# Altium footprint library Connectors.PcbLib: 76 footprints (part 1 of 5)
Each footprint in its own frame and in the unit in brackets; x right, y up, seen from the top. Pads: shape width x height; smd on the part's side, far side on the other; paste and mask are expansions set on the pad; w line width, h text height; cw(c..) or ccw(c..) is an arc to the next point about the centre after c.
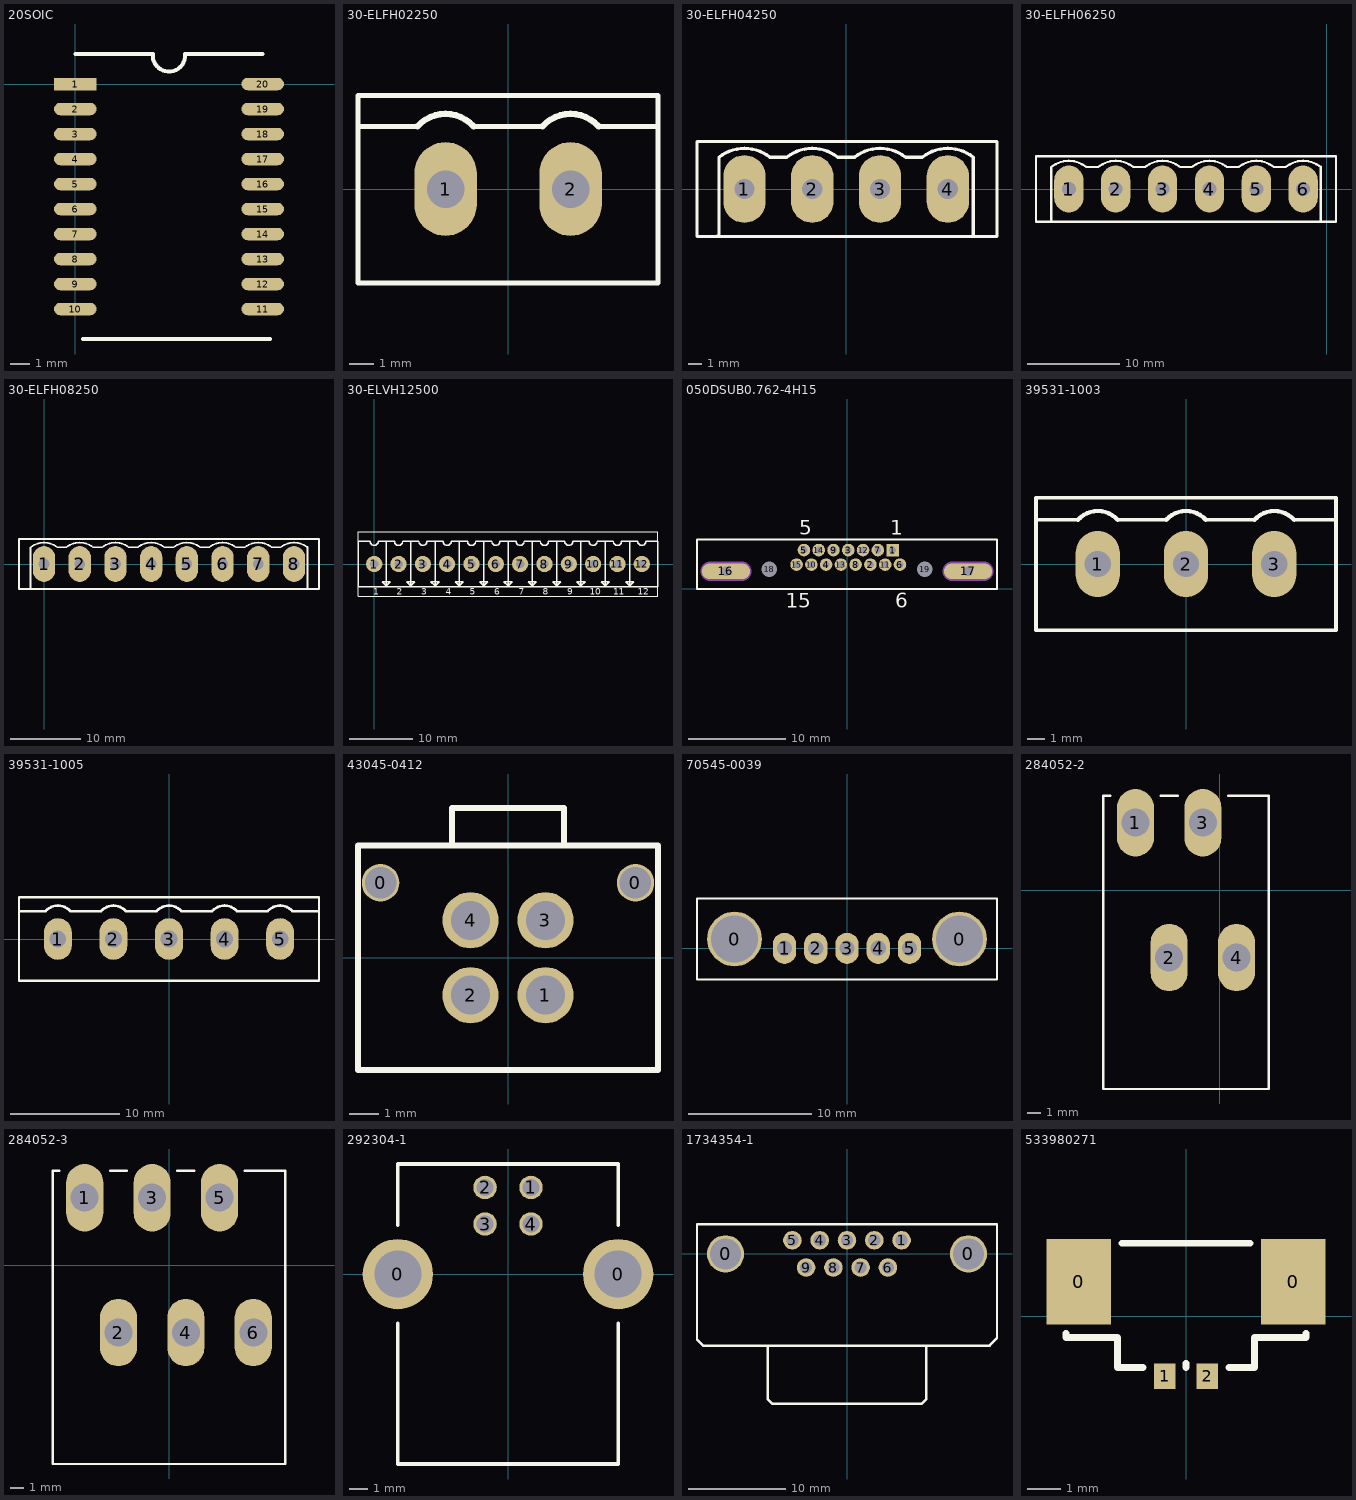
[diagram p0: the footprints below, top view; thin cyan lines are the x and y axes]

## 20SOIC [mil] "20SOIC"
height 100
pads (20):
  rect 85x25 smd: 1(0,0)
  oval 85x25 smd: 2(0,-50) 3(0,-100) 4(0,-150) 5(0,-200) 6(0,-250) 7(0,-300) 8(0,-350) 9(0,-400) 10(0,-450) 11(375,-450) 12(375,-400) 13(375,-350) 14(375,-300) 15(375,-250) 16(375,-200) 17(375,-150) 18(375,-100) 19(375,-50) 20(375,0)
Top Overlay:
  lines w8: 0,60 155,60 ccw(c187.5,57.5) 185,25 ccw(c187.5,57.5) 220,60 375,60 ; 15,-510 390,-510

## 30-ELFH02250 [mil] "ELFH02250"
height 475
pads (2):
  oval 100x150 hole 60: 1(-100,0) 2(100,0)
Top Overlay:
  lines w8: -239.72,100.28 -144.75,100.28 ; -55,100 54.97,100 ; 145,100 240,100 ; -240,-150 -240,150 240,150 240,-150 -240,-150
  lines w10: -144.75,100.28 cw(c-100,60) -55,100 ; 55.25,100.28 cw(c100,60) 145,100

## 30-ELFH04250 [mil]
height 1200
pads (4):
  oval 125x200 / inner round 60 / far side oval 125x200 hole 60: 1(-300,0) 2(-100,0) 3(100,0) 4(300,0)
Top Overlay:
  lines w10: -380,-140 -374.96,-134.96 -374.96,93.7 cw(c-300,0) -225.04,93.7 -174.96,93.7 cw(c-100,0) -25.04,93.7 25.04,93.7 cw(c100,0) 174.96,93.7 225.04,93.7 cw(c300,0) 374.96,93.7 374.96,-134.96 ; -440,-140 445,-140 445,140 -440,140 -440,-140

## 30-ELFH06250 [mil]
pads (6):
  oval 125x200 / inner round 60 / far side oval 125x200 hole 60: 1(-1100,0) 2(-900,0) 3(-700,0) 4(-500,0) 5(-300,0) 6(-100,0)
Top Overlay:
  lines w10: -1180,-140 -1174.96,-134.96 -1174.96,93.7 cw(c-1100,0) -1025.04,93.7 -974.96,93.7 cw(c-900,0) -825.04,93.7 -774.96,93.7 cw(c-700,0) -625.04,93.7 -574.96,93.7 cw(c-500,0) -425.04,93.7 -374.96,93.7 cw(c-300,0) -225.04,93.7 -174.96,93.7 cw(c-100,0) -25.04,93.7 ; -25,-133.67 -25,95 ; -1240,-140 -1240,140 40,140 40,-140 -1240,-140

## 30-ELFH08250 [mil]
height 475
pads (8):
  oval 125x200 / inner round 60 / far side oval 125x200 hole 60: 1(0,0) 2(200,0) 3(400,0) 4(600,0) 5(800,0) 6(1000,0) 7(1200,0) 8(1400,0)
Top Overlay:
  lines w10: -80,-140 -74.96,-134.96 -74.96,93.7 cw(c0,0) 74.96,93.7 125.04,93.7 cw(c200,0) 274.96,93.7 325.04,93.7 cw(c400,0) 474.96,93.7 525.04,93.7 cw(c600,0) 674.96,93.7 725.04,93.7 cw(c800,0) 874.96,93.7 925.04,93.7 cw(c1000,0) 1074.96,93.7 1125.04,93.7 cw(c1200,0) 1274.96,93.7 1325.04,93.7 cw(c1400,0) 1474.96,93.7 ; 1475,-133.67 1475,95 ; -140,-140 1540,-140 1540,140 -140,140 -140,-140

## 30-ELVH12500 [mil] "Mini connection header"
height 360
pads (12):
  round 100 hole 52: 1(0,0) 2(150,0) 3(300,0) 4(450,0) 5(600,0) 6(750,0) 7(900,0) 8(1050,0) 9(1200,0) 10(1350,0) 11(1500,0) 12(1650,0)
Top Overlay:
  lines w7: -100,-140 -100,-200 1750,-200 1750,-140 ; -100,140 -100,200 1750,200 1750,140
  lines w8: 75,140 75,-140 75,-135 ; 225,140 225,-140 225,-135 ; 375,140 375,-140 375,-135 ; 525,140 525,-140 525,-135 ; 675,140 675,-140 675,-135 ; 825,140 825,-140 825,-135 ; 975,140 975,-140 975,-135 ; 1125,140 1125,-140 1125,-135 ; 1275,140 1275,-140 1275,-135 ; 1425,140 1425,-140 1425,-135 ; 1575,140 1575,-140 1575,-135 ; 75,-135 50,-110 100,-110 75,-135 ; 225,-135 250,-110 200,-110 225,-135 ; 375,-135 400,-110 350,-110 375,-135 ; 525,-135 500,-110 550,-110 525,-135 ; 675,-135 700,-110 650,-110 675,-135 ; 825,-135 800,-110 850,-110 825,-135 ; 975,-135 1000,-110 950,-110 975,-135 ; 1125,-135 1100,-110 1150,-110 1125,-135 ; 1275,-135 1300,-110 1250,-110 1275,-135 ; 1425,-135 1400,-110 1450,-110 1425,-135 ; 1575,-135 1600,-110 1550,-110 1575,-135 ; -100,-140 1750,-140 1750,140 1675,140 cw(c1650,140) 1625,140 1525,140 cw(c1500,140) 1475,140 1375,140 cw(c1350,140) 1325,140 1225,140 cw(c1200,140) 1175,140 1075,140 cw(c1050,140) 1025,140 925,140 cw(c900,140) 875,140 775,140 cw(c750,140) 725,140 625,140 cw(c600,140) 575,140 475,140 cw(c450,140) 425,140 325,140 cw(c300,140) 275,140 175,140 cw(c150,140) 125,140 25,140 cw(c0,140) -25,140 -100,140 -100,-140
  text "12" at 1625,-190 h40
  text "11" at 1475,-190 h40
  text "10" at 1330,-190 h40
  text "9" at 1190,-190 h40
  text "8" at 1040,-190 h40
  text "7" at 890,-190 h40
  text "6" at 740,-190 h40
  text "5" at 590,-190 h40
  text "4" at 440,-190 h40
  text "3" at 290,-190 h40
  text "2" at 140,-190 h40
  text "1" at -5,-190 h40

## 050DSUB0.762-4H15 [mm] "Connector; D Subminiature; 15 Position; Right Angle; Pitch 0.762 mm"
height 12.65
pads (19):
  rect 1.3x1.3 hole 0.7: 1(4.703,4)
  round 1.3 hole 0.7: 2(2.417,2.5) 3(0.131,4) 4(-2.155,2.5) 5(-4.441,4) 6(5.465,2.5) 7(3.179,4) 8(0.893,2.5) 9(-1.393,4) 10(-3.679,2.5) 11(3.941,2.5) 12(1.655,4) 13(-0.631,2.5) 14(-2.917,4) 15(-5.203,2.5)
  oval 5x1.6 hole 1: 16(-12.495,1.8) 17(12.495,1.8)
  round 1.3 hole 1.6: 18(-8,2) 19(8,2)
Top Overlay:
  lines w0.2: -15.48,0 -15.48,5.1 15.48,5.1 15.48,0 -15.48,0
  text "5" at -4.941,5.6 h1.5
  text "1" at 4.453,5.6 h1.5
  text "6" at 4.965,-1.975 h1.5
  text "15" at -6.328,-1.975 h1.5
Mechanical 1:
  lines w1.2: -14.12,1.8 -10.87,1.8 ; 10.87,1.8 14.12,1.8
  text "Mech 2 - Clearance, move to internal plane if present" at -15.505,-2.67 h0.3
  text "Mech 1 - Slot cut-out" at -15.505,-2.17 h0.3
  text "Assign keep-out area to slot" at -15.505,-0.67 h0.3
  text "Slot 1.2x4.45mm, PTH" at -15.505,-1.67 h0.3
  text "Alert PCB fab to slot details" at -15.505,-1.17 h0.3
Mechanical 2:
  lines w2.016: -14.12,1.8 -10.87,1.8 ; 10.87,1.8 14.12,1.8

## 39531-1003 [mil] "ELFH03250"
height 475
pads (3):
  oval 100x150 hole 60: 1(-200,0) 2(0,0) 3(200,0)
Top Overlay:
  lines w8: -339.72,100.28 -244.75,100.28 ; -155,100 -45.03,100 ; 45,100 154.97,100 ; 245,100 340,100 ; -340,-150 340,-150 340,150 -340,150 -340,-150
  lines w10: -244.75,100.28 cw(c-200,60) -155,100 ; -44.75,100.28 cw(c0,60) 45,100 ; 155.25,100.28 cw(c200,60) 245,100

## 39531-1005 [mil] "30-ELFH05250"
height 475
pads (5):
  oval 100x150 hole 60: 1(-400,0) 2(-200,0) 3(0,0) 4(200,0) 5(400,0)
Top Overlay:
  lines w8: -539.72,100.28 -444.75,100.28 ; -355,100 -245.03,100 ; -155,100 -45.03,100 ; 45,100 155.25,100 ; 245,100 354.97,100 ; 445,100 540,100 ; -540,-150 -540,150 540,150 540,-150 -540,-150
  lines w10: -444.75,100.28 cw(c-400,60) -355,100 ; -244.75,100.28 cw(c-200,60) -155,100 ; -44.75,100.28 cw(c0,60) 45,100 ; 155.25,100.28 cw(c200,60) 245,100 ; 355.25,100.28 cw(c400,60) 445,100

## 43045-0412 [mil] "43045-0412 Male Connector"
height 425
pads (6):
  round 50 hole 42: 0(-170,100) 0(170,100)
  round 75 hole 52: 1(50,-50) 2(-50,-50) 3(50,50) 4(-50,50)
Top Overlay:
  lines w8: -75,150 -75,200 75,200 75,150 ; -200,-150 -200,150 200,150 200,-150 -200,-150

## 70545-0039 [mil] "Molex connector"
height 450
pads (7):
  round 175 hole 149: 0(-360,30) 0(360,30)
  oval 75x100 hole 49: 1(-200,0) 2(-100,0) 3(0,0) 4(100,0) 5(200,0)
Top Overlay:
  lines w7: -480,-100 480,-100 480,160 -480,160 -480,-100

## 284052-2 [mil]
height 902
pads (4):
  oval 110x200 hole 83: 1(-250,200) 2(-150,-200) 3(-50,200) 4(50,-200)
Top Overlay:
  lines w7: -325,280 -345,280 -345,-590 145,-590 145,280 25,280 ; -175,280 -125,280

## 284052-3 [mil] "6 Pos Stacked connector"
height 902
pads (6):
  oval 110x200 hole 83: 1(-250,200) 2(-150,-200) 3(-50,200) 4(50,-200) 5(150,200) 6(250,-200)
Top Overlay:
  lines w7: -325,280 -345,280 -345,-590 345,-590 345,280 225,280 ; -175,280 -125,280 ; 25,280 75,280

## 292304-1 [mil] "CONN USB RECEPT R/A TYPE B 4POS"
height 435
pads (6):
  round 150 hole 100: 0(-235,0) 0(235,0)
  round 50 hole 36: 1(49,185) 2(-49,185) 3(-49,107) 4(49,107)
Top Overlay:
  lines w8: -235,-105 -235,-405 235,-405 235,-105 ; -235,105 -235,235 235,235 235,105
3D body: height 453.74, standoff -153.58, extent -285.24,-402.11 281.24,216

## 1734354-1 [mil] "Female Rt Angle DB9, PCB, clip style"
height 510
pads (11):
  round 150 hole 125: 0(-490,0) 0(490,0)
  round 75 hole 49: 1(220,55) 2(110,55) 3(0,55) 4(-110,55) 5(-220,55) 6(165,-55) 7(55,-55) 8(-55,-55) 9(-165,-55)
Top Overlay:
  lines w10: -320,-370 -320,-585 -300,-605 300,-605 320,-585 320,-370 ; -605,-345 -605,120 605,120 605,-340 575,-370 -580,-370 -605,-345

## 533980271 [mil]
pads (4):
  rect 75x100 smd: 0(-125,40) 0(125,40)
  rect 25x30 smd: 1(-25,-70) 2(25,-70)
Top Overlay:
  lines w8: -140,-20 -140,-25 -80,-25 -80,-60 -50,-60 ; -75,85 75,85 ; 0,-60 0,-55 ; 50,-60 80,-60 80,-25 140,-25 140,-20
3D body: height 185.55, standoff 0.51, extent -151.18,-82.68 150,82.68